# Altium footprint library XBeeLight.PcbLib: 42 footprints (part 3 of 3)
Each footprint in its own frame and in the unit in brackets; x right, y up, seen from the top. Pads: shape width x height; smd on the part's side, far side on the other; paste and mask are expansions set on the pad; w line width, h text height; cw(c..) or ccw(c..) is an arc to the next point about the centre after c.
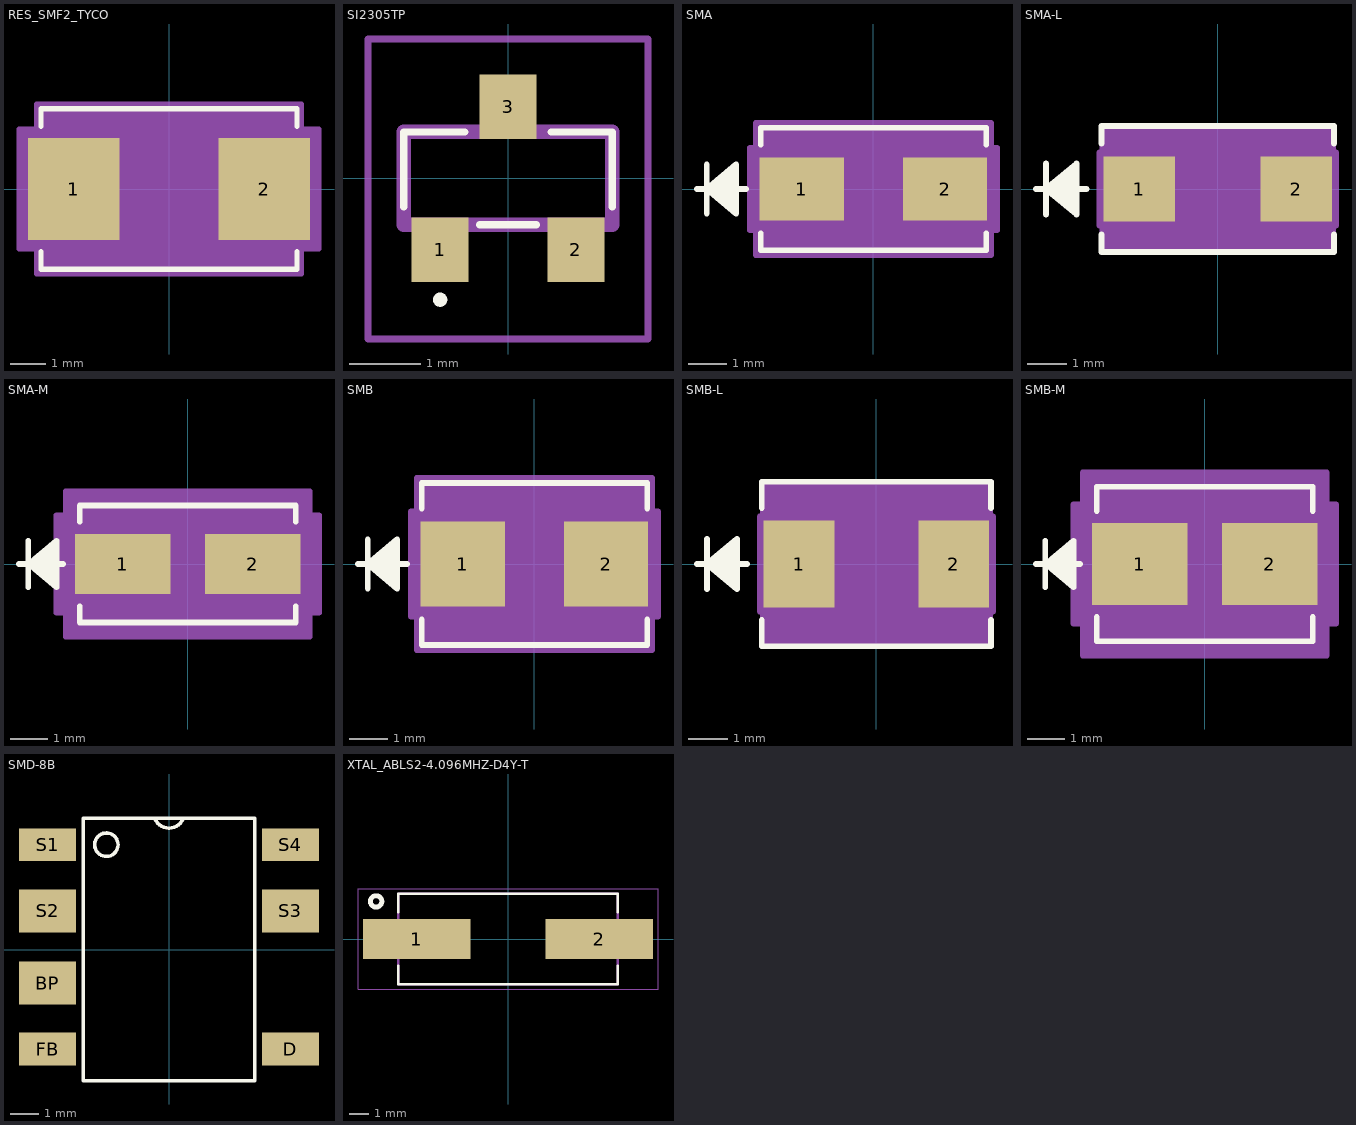
[diagram p2: the footprints below, top view; thin cyan lines are the x and y axes]

## RES_SMF2_TYCO [mil]
pads (2):
  rect 102.5x114 smd paste+0 mask+0: 1(-106.25,0) 2(106.25,0)
Top Overlay:
  lines w6: -143,-70.1 -143,-89.5 143,-89.5 143,-70.1 ; -143,70.1 -143,89.5 143,89.5 143,70.1
Mechanical 13:
  lines w1: -138,-84.5 -138,84.5 138,84.5 138,-84.5 -138,-84.5
Mechanical 15:
  region: -148,-67 -167.5,-67 -167.5,67 -148,67 -148,94.5 148,94.5 148,67 167.5,67 167.5,-67 148,-67 148,-94.5 -148,-94.5
  lines w6: -167.5,-67 -148,-67 -148,-94.5 148,-94.5 148,-67 167.5,-67 167.5,67 148,67 148,94.5 -148,94.5 -148,67 -167.5,67 -167.5,-67
3D body: height 10, standoff 0, extent 0,0 10,10

## SI2305TP [mm]
pads (3):
  rect 0.8x0.9 smd: 1(-0.95,-1) 2(0.95,-1) 3(0,1)
Top Overlay:
  lines w0.1: -1.46,-0.4 -1.46,0.65 -0.6,0.65 ; -0.4,-0.65 0.4,-0.65 ; 0.6,0.65 1.46,0.65 1.46,-0.4 ; -1,-1.7 cw(c-0.95,-1.7) -0.9,-1.7 cw(c-0.95,-1.7) -1,-1.7
Mechanical 15:
  lines w0.2: -1.46,-0.65 1.46,-0.65 1.46,0.65 -1.46,0.65 -1.46,-0.65
Mechanical 20:
  lines w0.1: -1.96,-2.25 1.96,-2.25 1.96,1.95 -1.96,1.95 -1.96,-2.25

## SMA [mm]
pads (2):
  rect 2.18x1.63 smd paste+0 mask+0: 1(-1.857,0) 2(1.857,0)
Top Overlay:
  lines w0.152: -4.573,0 -3.303,0 ; -4.319,-0.635 -4.319,0.635 ; -3.557,-0.508 -4.319,0 ; -3.557,-0.381 -4.319,0 ; -3.557,-0.254 -4.319,0 ; -3.557,-0.127 -4.319,0 ; -3.557,0.127 -4.319,0 ; -3.557,0.254 -4.319,0 ; -3.557,0.381 -4.319,0 ; -3.557,0.508 -4.319,0 ; -2.922,-1.148 -2.922,-1.587 2.922,-1.587 2.922,-1.148 ; -2.922,1.148 -2.922,1.587 2.922,1.587 2.922,1.148 ; -4.319,0 -3.557,0.635 -3.557,-0.635 -4.319,0
Mechanical 13:
  lines w0.025: -4.573,0 -3.303,0 ; -4.319,-0.635 -4.319,0.635 ; -3.557,-0.508 -4.319,0 ; -3.557,-0.381 -4.319,0 ; -3.557,-0.254 -4.319,0 ; -3.557,-0.127 -4.319,0 ; -3.557,0.127 -4.319,0 ; -3.557,0.254 -4.319,0 ; -3.557,0.381 -4.319,0 ; -3.557,0.508 -4.319,0 ; -4.319,0 -3.557,0.635 -3.557,-0.635 -4.319,0 ; -2.795,-1.46 2.795,-1.46 2.795,1.46 -2.795,1.46 -2.795,-1.46
Mechanical 15:
  region: -3.049,-1.069 -3.201,-1.069 -3.201,1.069 -3.049,1.069 -3.049,1.714 3.049,1.714 3.049,1.069 3.201,1.069 3.201,-1.069 3.049,-1.069 3.049,-1.714 -3.049,-1.714
  lines w0.152: -3.201,-1.069 -3.201,1.069 -3.049,1.069 -3.049,1.714 3.049,1.714 3.049,1.069 3.201,1.069 3.201,-1.069 3.049,-1.069 3.049,-1.714 -3.049,-1.714 -3.049,-1.069 -3.201,-1.069
3D body: height 0.25, standoff 0, extent 0,0 0.254,0.254

## SMA-L [mm]
pads (2):
  rect 1.799x1.63 smd paste+0 mask+0: 1(-1.971,0) 2(1.971,0)
Top Overlay:
  lines w0.152: -4.573,0 -3.303,0 ; -4.319,-0.635 -4.319,0.635 ; -3.557,-0.508 -4.319,0 ; -3.557,-0.381 -4.319,0 ; -3.557,-0.254 -4.319,0 ; -3.557,-0.127 -4.319,0 ; -3.557,0.127 -4.319,0 ; -3.557,0.254 -4.319,0 ; -3.557,0.381 -4.319,0 ; -3.557,0.508 -4.319,0 ; -2.922,-1.144 -2.922,-1.587 2.922,-1.587 2.922,-1.144 ; -2.922,1.144 -2.922,1.587 2.922,1.587 2.922,1.144 ; -4.319,0 -3.557,0.635 -3.557,-0.635 -4.319,0
Mechanical 13:
  lines w0.025: -4.573,0 -3.303,0 ; -4.319,-0.635 -4.319,0.635 ; -3.557,-0.508 -4.319,0 ; -3.557,-0.381 -4.319,0 ; -3.557,-0.254 -4.319,0 ; -3.557,-0.127 -4.319,0 ; -3.557,0.127 -4.319,0 ; -3.557,0.254 -4.319,0 ; -3.557,0.381 -4.319,0 ; -3.557,0.508 -4.319,0 ; -4.319,0 -3.557,0.635 -3.557,-0.635 -4.319,0 ; -2.795,-1.46 2.795,-1.46 2.795,1.46 -2.795,1.46 -2.795,-1.46
Mechanical 15:
  region: -2.897,-0.917 -2.973,-0.917 -2.973,0.917 -2.897,0.917 -2.897,1.562 2.897,1.562 2.897,0.917 2.973,0.917 2.973,-0.917 2.897,-0.917 2.897,-1.562 -2.897,-1.562
  lines w0.152: -2.973,-0.917 -2.973,0.917 -2.897,0.917 -2.897,1.562 2.897,1.562 2.897,0.917 2.973,0.917 2.973,-0.917 2.897,-0.917 2.897,-1.562 -2.897,-1.562 -2.897,-0.917 -2.973,-0.917
3D body: height 0.25, standoff 0, extent 0,0 0.254,0.254

## SMA-M [mm]
pads (2):
  rect 2.587x1.63 smd paste+0 mask+0: 1(-1.756,0) 2(1.756,0)
Top Overlay:
  lines w0.152: -4.573,0 -3.382,0 ; -4.319,-0.635 -4.319,0.635 ; -3.557,-0.508 -4.319,0 ; -3.557,-0.381 -4.319,0 ; -3.557,-0.254 -4.319,0 ; -3.557,-0.127 -4.319,0 ; -3.557,0.127 -4.319,0 ; -3.557,0.254 -4.319,0 ; -3.557,0.381 -4.319,0 ; -3.557,0.508 -4.319,0 ; -2.922,-1.148 -2.922,-1.587 2.922,-1.587 2.922,-1.148 ; -2.922,1.148 -2.922,1.587 2.922,1.587 2.922,1.148 ; -4.319,0 -3.557,-0.635 -3.557,0.635 -4.319,0
Mechanical 13:
  lines w0.025: -4.573,0 -3.303,0 ; -4.319,-0.635 -4.319,0.635 ; -3.557,-0.508 -4.319,0 ; -3.557,-0.381 -4.319,0 ; -3.557,-0.254 -4.319,0 ; -3.557,-0.127 -4.319,0 ; -3.557,0.127 -4.319,0 ; -3.557,0.254 -4.319,0 ; -3.557,0.381 -4.319,0 ; -3.557,0.508 -4.319,0 ; -4.319,0 -3.557,-0.635 -3.557,0.635 -4.319,0 ; -2.795,-1.46 -2.795,1.46 2.795,1.46 2.795,-1.46 -2.795,-1.46
Mechanical 15:
  region: -3.303,-1.323 -3.557,-1.323 -3.557,1.323 -3.303,1.323 -3.303,1.968 3.303,1.968 3.303,1.323 3.557,1.323 3.557,-1.323 3.303,-1.323 3.303,-1.968 -3.303,-1.968
  lines w0.152: -3.557,-1.323 -3.303,-1.323 -3.303,-1.968 3.303,-1.968 3.303,-1.323 3.557,-1.323 3.557,1.323 3.303,1.323 3.303,1.968 -3.303,1.968 -3.303,1.323 -3.557,1.323 -3.557,-1.323
3D body: height 0.25, standoff 0, extent 0,0 0.254,0.254

## SMB [mm]
pads (2):
  rect 2.18x2.21 smd paste+0 mask+0: 1(-1.857,0) 2(1.857,0)
Top Overlay:
  lines w0.152: -4.573,0 -3.303,0 ; -4.319,-0.635 -4.319,0.635 ; -3.557,-0.508 -4.319,0 ; -3.557,-0.381 -4.319,0 ; -3.557,-0.254 -4.319,0 ; -3.557,-0.127 -4.319,0 ; -3.557,0.127 -4.319,0 ; -3.557,0.254 -4.319,0 ; -3.557,0.381 -4.319,0 ; -3.557,0.508 -4.319,0 ; -2.922,-1.438 -2.922,-2.097 2.922,-2.097 2.922,-1.438 ; -2.922,1.438 -2.922,2.097 2.922,2.097 2.922,1.438 ; -4.319,0 -3.557,0.635 -3.557,-0.635 -4.319,0
Mechanical 13:
  lines w0.025: -4.573,0 -3.303,0 ; -4.319,-0.635 -4.319,0.635 ; -3.557,-0.508 -4.319,0 ; -3.557,-0.381 -4.319,0 ; -3.557,-0.254 -4.319,0 ; -3.557,-0.127 -4.319,0 ; -3.557,0.127 -4.319,0 ; -3.557,0.254 -4.319,0 ; -3.557,0.381 -4.319,0 ; -3.557,0.508 -4.319,0 ; -4.319,0 -3.557,0.635 -3.557,-0.635 -4.319,0 ; -2.795,-1.97 2.795,-1.97 2.795,1.97 -2.795,1.97 -2.795,-1.97
Mechanical 15:
  region: -3.049,-1.359 -3.201,-1.359 -3.201,1.359 -3.049,1.359 -3.049,2.224 3.049,2.224 3.049,1.359 3.201,1.359 3.201,-1.359 3.049,-1.359 3.049,-2.224 -3.049,-2.224
  lines w0.152: -3.201,-1.359 -3.201,1.359 -3.049,1.359 -3.049,2.224 3.049,2.224 3.049,1.359 3.201,1.359 3.201,-1.359 3.049,-1.359 3.049,-2.224 -3.049,-2.224 -3.049,-1.359 -3.201,-1.359
3D body: height 0.25, standoff 0, extent 0,0 0.254,0.254

## SMB-L [mm]
pads (2):
  rect 1.799x2.21 smd paste+0 mask+0: 1(-1.971,0) 2(1.971,0)
Top Overlay:
  lines w0.152: -4.573,0 -3.303,0 ; -4.319,-0.635 -4.319,0.635 ; -3.557,-0.508 -4.319,0 ; -3.557,-0.381 -4.319,0 ; -3.557,-0.254 -4.319,0 ; -3.557,-0.127 -4.319,0 ; -3.557,0.127 -4.319,0 ; -3.557,0.254 -4.319,0 ; -3.557,0.381 -4.319,0 ; -3.557,0.508 -4.319,0 ; -2.922,-1.434 -2.922,-2.097 2.922,-2.097 2.922,-1.434 ; -2.922,1.434 -2.922,2.097 2.922,2.097 2.922,1.434 ; -4.319,0 -3.557,0.635 -3.557,-0.635 -4.319,0
Mechanical 13:
  lines w0.025: -4.573,0 -3.303,0 ; -4.319,-0.635 -4.319,0.635 ; -3.557,-0.508 -4.319,0 ; -3.557,-0.381 -4.319,0 ; -3.557,-0.254 -4.319,0 ; -3.557,-0.127 -4.319,0 ; -3.557,0.127 -4.319,0 ; -3.557,0.254 -4.319,0 ; -3.557,0.381 -4.319,0 ; -3.557,0.508 -4.319,0 ; -4.319,0 -3.557,0.635 -3.557,-0.635 -4.319,0 ; -2.795,-1.97 2.795,-1.97 2.795,1.97 -2.795,1.97 -2.795,-1.97
Mechanical 15:
  region: -2.897,-1.207 -2.973,-1.207 -2.973,1.207 -2.897,1.207 -2.897,2.072 2.897,2.072 2.897,1.207 2.973,1.207 2.973,-1.207 2.897,-1.207 2.897,-2.072 -2.897,-2.072
  lines w0.152: -2.973,-1.207 -2.973,1.207 -2.897,1.207 -2.897,2.072 2.897,2.072 2.897,1.207 2.973,1.207 2.973,-1.207 2.897,-1.207 2.897,-2.072 -2.897,-2.072 -2.897,-1.207 -2.973,-1.207
3D body: height 0.25, standoff 0, extent 0,0 0.254,0.254

## SMB-M [mm]
pads (2):
  rect 2.587x2.21 smd paste+0 mask+0: 1(-1.756,0) 2(1.756,0)
Top Overlay:
  lines w0.152: -4.573,0 -3.382,0 ; -4.319,-0.635 -4.319,0.635 ; -3.557,-0.508 -4.319,0 ; -3.557,-0.381 -4.319,0 ; -3.557,-0.254 -4.319,0 ; -3.557,-0.127 -4.319,0 ; -3.557,0.127 -4.319,0 ; -3.557,0.254 -4.319,0 ; -3.557,0.381 -4.319,0 ; -3.557,0.508 -4.319,0 ; -2.922,-1.438 -2.922,-2.097 2.922,-2.097 2.922,-1.438 ; -2.922,1.438 -2.922,2.097 2.922,2.097 2.922,1.438 ; -4.319,0 -3.557,-0.635 -3.557,0.635 -4.319,0
Mechanical 13:
  lines w0.025: -4.573,0 -3.303,0 ; -4.319,-0.635 -4.319,0.635 ; -3.557,-0.508 -4.319,0 ; -3.557,-0.381 -4.319,0 ; -3.557,-0.254 -4.319,0 ; -3.557,-0.127 -4.319,0 ; -3.557,0.127 -4.319,0 ; -3.557,0.254 -4.319,0 ; -3.557,0.381 -4.319,0 ; -3.557,0.508 -4.319,0 ; -4.319,0 -3.557,-0.635 -3.557,0.635 -4.319,0 ; -2.795,-1.97 -2.795,1.97 2.795,1.97 2.795,-1.97 -2.795,-1.97
Mechanical 15:
  region: -3.303,-1.613 -3.557,-1.613 -3.557,1.613 -3.303,1.613 -3.303,2.478 3.303,2.478 3.303,1.613 3.557,1.613 3.557,-1.613 3.303,-1.613 3.303,-2.478 -3.303,-2.478
  lines w0.152: -3.557,-1.613 -3.303,-1.613 -3.303,-2.478 3.303,-2.478 3.303,-1.613 3.557,-1.613 3.557,1.613 3.303,1.613 3.303,2.478 -3.303,2.478 -3.303,1.613 -3.557,1.613 -3.557,-1.613
3D body: height 0.25, standoff 0, extent 0,0 0.254,0.254

## SMD-8B [mil]
pads (7):
  rect 80x60 smd: BP(-170,-47) S2(-170,54) S3(170,54)
  rect 80x46 smd: D(170,-139.25) FB(-170,-139.25) S1(-170,146.75) S4(170,146.75)
Top Overlay:
  circle w5: c-87.72,146.79 r16.41
  lines w5: -19.97,183.42 ccw(c0,191.48) 19.97,183.42 ; 120,183.5 120,-183.5 -120,-183.5 -120,183.5 120,183.85

## XTAL_ABLS2-4.096MHZ-D4Y-T [mm]
pads (2):
  rect 5.6x2.1 smd: 1(-4.75,0) 2(4.75,0)
Top Overlay:
  circle w0.254: c-6.858,1.956 r0.296
  lines w0.127: -5.7,-1.4 -5.7,-2.35 5.7,-2.35 5.7,-1.4 ; -5.7,1.4 -5.7,2.35 5.7,2.35 5.7,1.4
Mechanical 4:
  lines w0.127: -5.7,-2.35 -5.7,2.35 ; -5.7,-2.35 5.7,-2.35 ; -5.7,-2.35 -5.7,2.35 ; -5.7,-2.35 5.7,-2.35 ; -5.7,2.35 5.7,2.35 ; -5.7,2.35 5.7,2.35 ; 5.7,-2.35 5.7,2.35 ; 5.7,-2.35 5.7,2.35
Mechanical 16:
  lines w0.05: -7.8,-2.6 -7.8,2.6 7.8,2.6 7.8,-2.6 -7.8,-2.6